# Altium schematic symbol library MaxVit.SchLib: 35 symbols
Pins are listed as number, name and electrical type; pins without a type are passive.

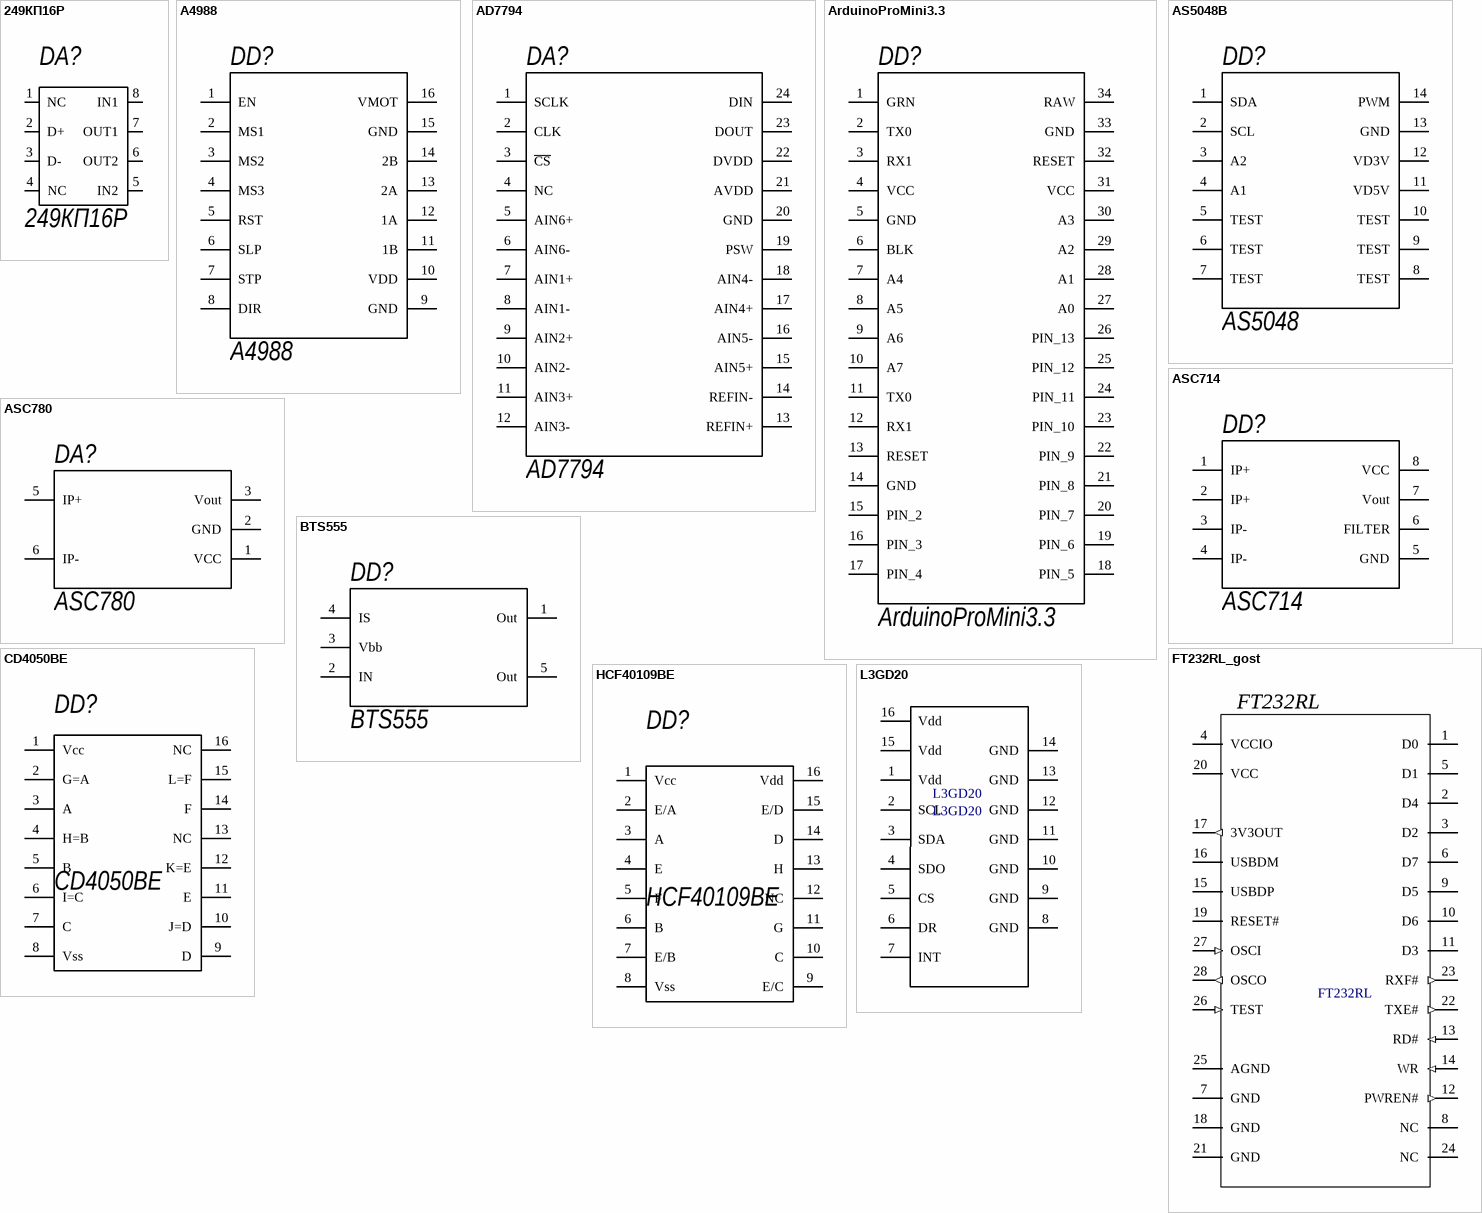
[diagram p0: symbols 249КП16Р to L3GD20]

## 249КП16Р
designator DA?
Power MOSFET Photovoltaic Relay; LastRevisionDate: 06.04.2015; Name: 249КП16Р; OutComment: 249КП16Р; PackageDescription: DIP-8; Publisher: IMTP FEB RAS
footprint DIP-8 (DIP; 8 Leads; Row Spacing 7.62 mm; Pitch 2.54 mm)
pins: 1 NC, 2 D+, 3 D-, 4 NC, 5 IN2, 6 OUT2, 7 OUT1, 8 IN1

## A4988
designator DD?
Drive servo; LastRevisionDate: 02.04.2015; Name: A4988; OutComment: A4988; PackageDescription: a; Publisher: SV
footprint A4988
pins: 1 EN, 2 MS1, 3 MS2, 4 MS3, 5 RST, 6 SLP, 7 STP, 8 DIR, 9 GND, 10 VDD, 11 1B, 12 1A, 13 2A, 14 2B, 15 GND, 16 VMOT

## AD7794
designator DA?
ADC; LastRevisionDate: 06.04.2015; Name: AD7794; OutComment: AD7794; PackageDescription: SOIC; Publisher: IMTP FEB RAS
footprint AD7794
pins: 1 SCLK, 2 CLK, 3 ~{CS}, 4 NC, 5 AIN6+, 6 AIN6-, 7 AIN1+, 8 AIN1-, 9 AIN2+, 10 AIN2-, 11 AIN3+, 12 AIN3-, 13 REFIN+, 14 REFIN-, 15 AIN5+, 16 AIN5-, 17 AIN4+, 18 AIN4-, 19 PSW, 20 GND, 21 AVDD, 22 DVDD, 23 DOUT, 24 DIN

## ArduinoProMini3.3
designator DD?
ArduinoProMini; LastRevisionDate: 02.04.2015; Name: ArduinoProMini3.3; OutComment: ArduinoProMini3.3; PackageDescription: ard; Publisher: SV
footprint ARDUINOpromini3.3
pins: 1 GRN (power), 2 TX0 (power), 3 RX1 (power), 4 VCC, 5 GND (power), 6 BLK (power), 7 A4 (power), 8 A5 (power), 9 A6 (power), 10 A7 (power), 11 TX0 (power), 12 RX1 (power), 13 RESET (power), 14 GND (power), 15 PIN_2 (power), 16 PIN_3 (power), 17 PIN_4 (power), 18 PIN_5 (power), 19 PIN_6 (power), 20 PIN_7 (power), 21 PIN_8 (power), 22 PIN_9 (power), 23 PIN_10 (power), 24 PIN_11 (power), 25 PIN_12 (power), 26 PIN_13 (power), 27 A0 (power), 28 A1 (power), 29 A2 (power), 30 A3 (power), 31 VCC (power), 32 RESET (power), 33 GND (power), 34 RAW (power)

## AS5048B
designator DD?, comment AS5048
Hall Effect-Based Linear Current Sensor; OutComment: AS5048B; LastRevisionDate: 02.04.2015; Name: AS5048; PackageDescription: TSOP_14; Publisher: SV
footprint AS5048_TSOP65P640X120-14N (TSOP, 14-Leads, Body 5.00x4.40mm, Pitch 0.65mm, IPC Medium Density)
pins: 1 SDA, 2 SCL, 3 A2, 4 A1, 5 TEST, 6 TEST, 7 TEST, 8 TEST, 9 TEST, 10 TEST, 11 VD5V, 12 VD3V, 13 GND, 14 PWM

## ASC714
designator DD?
Hall Effect-Based Linear Current Sensor; LastRevisionDate: 02.04.2015; Name: ASC714; OutComment: ASC714; PackageDescription: SOIC-8; Publisher: SV
footprint asc714
pins: 1 IP+ (power), 2 IP+ (power), 3 IP- (power), 4 IP-, 5 GND (power), 6 FILTER (power), 7 Vout (power), 8 VCC (power)

## ASC780
designator DA?
Hall Effect-Based Linear Current Sensor; LastRevisionDate: 02.04.2015; Name: ASC780; OutComment: ASC780; PackageDescription: -; Publisher: SV
footprint ACS780xLR
pins: 1 VCC (power), 2 GND (power), 3 Vout (power), 5 IP+ (power), 6 IP-

## BTS555
designator DD?
Electronics key; LastRevisionDate: 02.04.2015; Name: BTS555; OutComment: BTS555; PackageDescription: -; Publisher: SV
footprint bts555-P-TO218-5-146 (FM, 5-Leads, Body 15x12.5mm, Pitch 2.54mm)
pins: 1 Out (power), 2 IN (power), 3 Vbb (power), 4 IS, 5 Out (power)

## CD4050BE
designator DD?
Non-inverting hex buffers; LastRevisionDate: 15.04.2015; Name: CD4050BE; OutComment: CD4050BE; PackageDescription: DIP-16
footprint DIP16
pins: 1 Vcc (power), 2 G=A (power), 3 A (power), 4 H=B, 5 B (power), 6 I=C (power), 7 C (power), 8 Vss (power), 9 D (power), 10 J=D (power), 11 E (power), 12 K=E (power), 13 NC (power), 14 F (power), 15 L=F (power), 16 NC (power)

## FT232RL_gost
designator FT232RL  (value not drawn)
footprint FT232RL
pins: 1 D0, 2 D4, 3 D2, 4 VCCIO (power), 5 D1, 6 D7, 7 GND (power), 8 NC, 9 D5, 10 D6, 11 D3, 12 PWREN# (out), 13 RD# (in), 14 WR (in), 15 USBDP, 16 USBDM, 17 3V3OUT (out), 18 GND (power), 19 RESET# (hiz), 20 VCC (power), 21 GND (power), 22 TXE# (out), 23 RXF# (out), 24 NC, 25 AGND (power), 26 TEST (in), 27 OSCI (in), 28 OSCO (out)

## HCF40109BE
designator DD?
LOW-TO-HIGH VOLTAGE; LastRevisionDate: 02.04.2015; Name: HCF40109BE; OutComment: HCF40109BE; PackageDescription: DIP16
footprint DIP16
pins: 1 Vcc (power), 2 E/A (power), 3 A (power), 4 E, 5 F (power), 6 B (power), 7 E/B (power), 8 Vss (power), 9 E/C (power), 10 C (power), 11 G (power), 12 NC (power), 13 H (power), 14 D (power), 15 E/D (power), 16 Vdd (power)

## L3GD20
designator L3GD20
Гироскоп 3х осевой
footprint QFN65P399X399X100-16N (QFN, 16-Leads, Body 4,2x4,2mm (max), Pitch 0,65mm, IPC Medium Density)
pins: 1 Vdd, 2 SCL, 3 SDA, 4 SDO, 5 CS, 6 DR , 7 INT, 8 GND, 9 GND, 10 GND, 11 GND, 12 GND, 13 GND, 14 GND, 15 Vdd, 16 Vdd

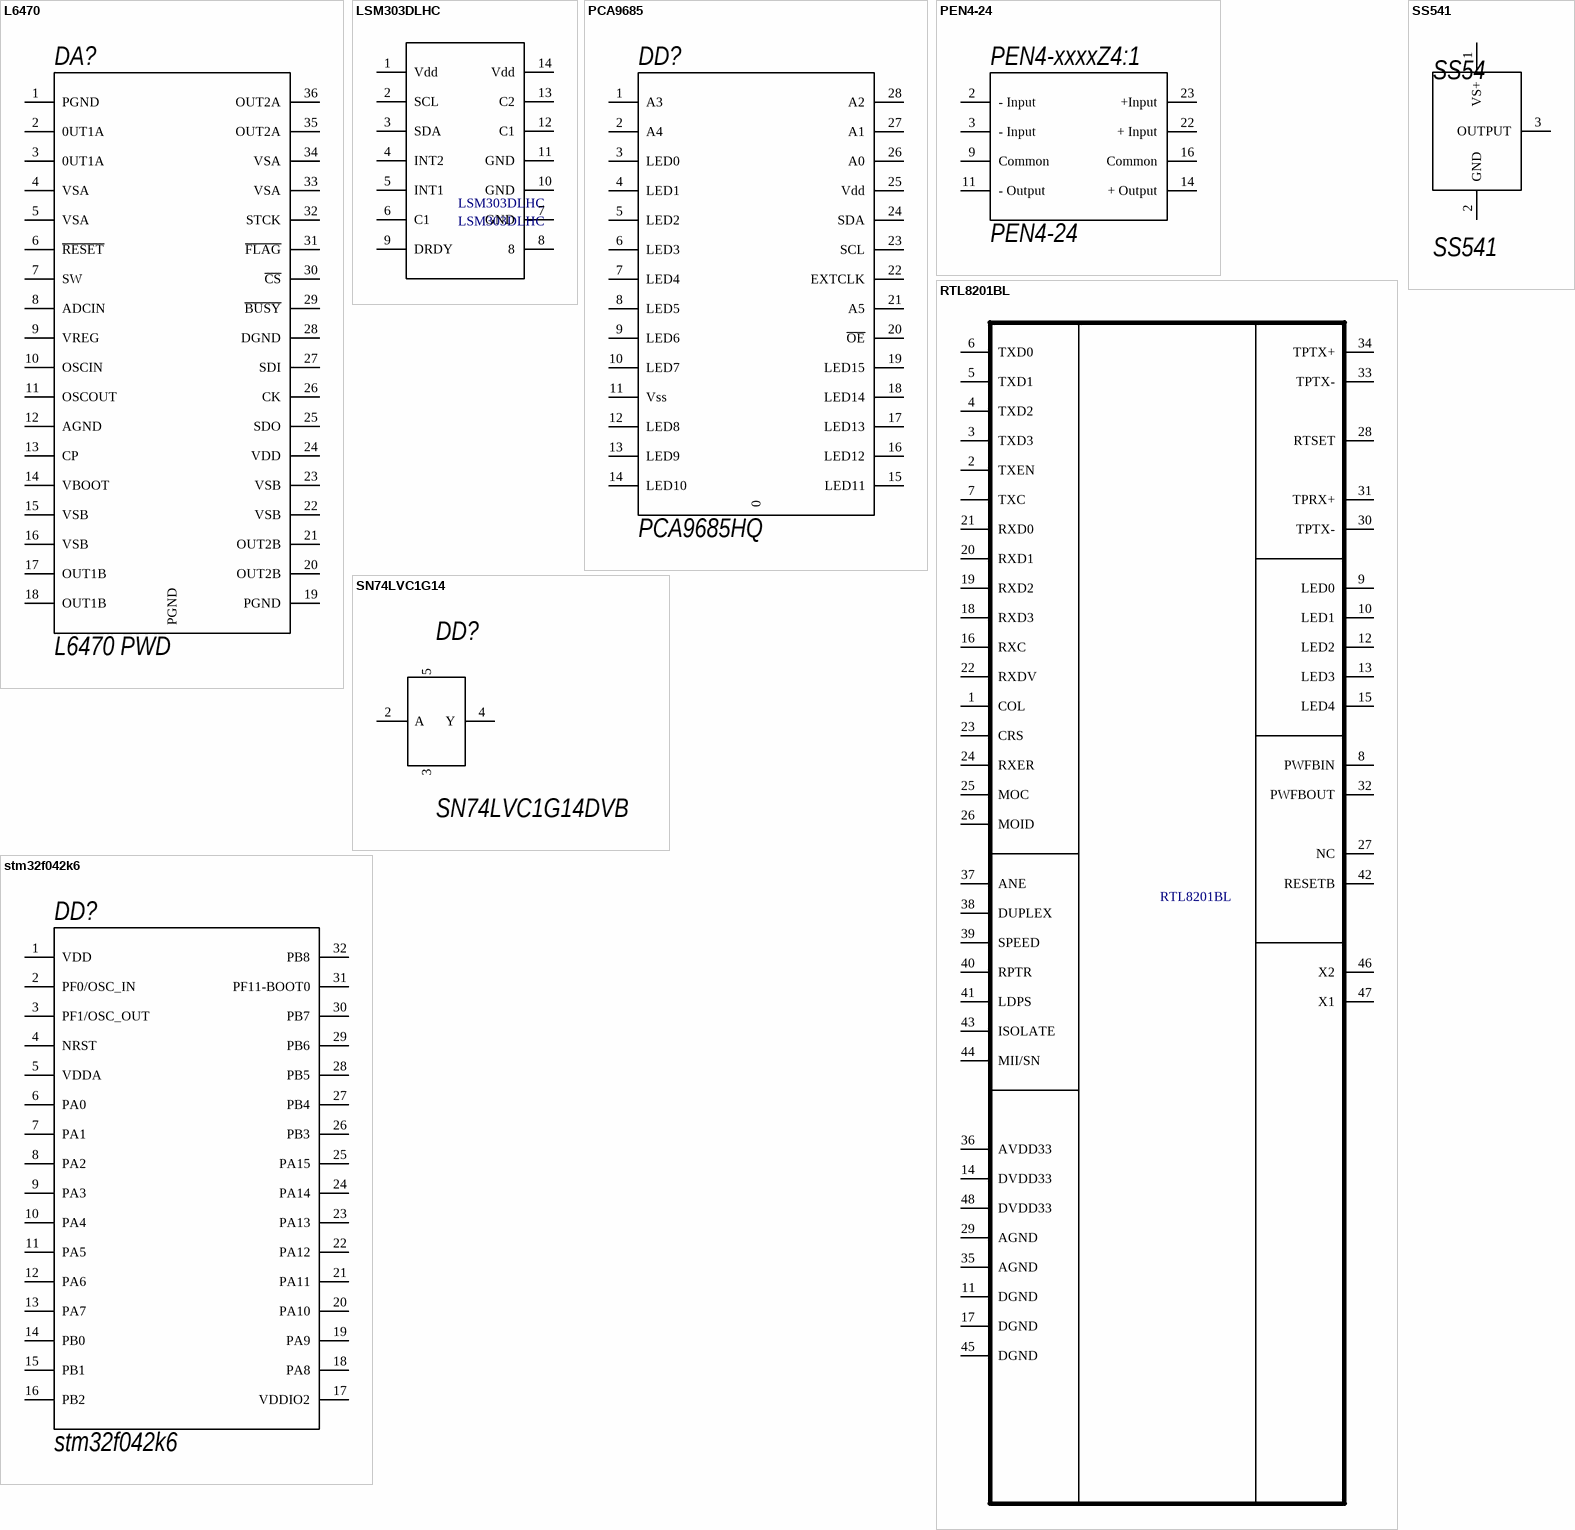
[diagram p1: symbols L6470 to stm32f042k6]

## L6470
designator DA?, comment L6470 PWD
Driver servo; LastRevisionDate: 06.04.2015; Name: L6470 PWD; OutComment: L6470; PackageDescription: POWERSO36; Publisher: IMTP FEB RAS
footprint L6470 PWD
pins: 0 PGND, 1 PGND, 2 0UT1A, 3 0UT1A, 4 VSA, 5 VSA, 6 ~{RESET}, 7 SW, 8 ADCIN, 9 VREG, 10 OSCIN, 11 OSCOUT, 12 AGND, 13 CP, 14 VBOOT, 15 VSB, 16 VSB, 17 OUT1B, 18 OUT1B, 19 PGND, 20 OUT2B, 21 OUT2B, 22 VSB, 23 VSB, 24 VDD, 25 SDO, 26 CK, 27 SDI, 28 DGND, 29 ~{BUSY}, 30 ~{CS}, 31 ~{FLAG}, 32 STCK, 33 VSA, 34 VSA, 35 OUT2A, 36 OUT2A

## LSM303DLHC
designator LSM303DLHC
Акселерометр и компас
footprint QFN80P392X192X100-14N (QFN, 14-Leads, Body 1,0x3,0mm (max), Pitch 0,80mm, IPC Medium Density)
pins: 1 Vdd, 2 SCL, 3 SDA, 4 INT2, 5 INT1, 6 C1, 7 GND, 8, 9 DRDY, 10 GND, 11 GND, 12 C1, 13 C2, 14 Vdd

## PCA9685
designator DD?, comment PCA9685HQ
ADC; LastRevisionDate: 06.04.2015; Name: PCA9685HQ; OutComment: PCA9685; PackageDescription: HVQFN28; Publisher: IMTP FEB RAS
footprint pca9685 HVQFN28 (QFN, 28-Leads, Body 6.00x6.00mm, Pitch 0.65mm, Thermal Pad 4.10x4.10mm, IPC Medium Density)
pins: 0, 1 A3, 2 A4, 3 LED0, 4 LED1, 5 LED2, 6 LED3, 7 LED4, 8 LED5, 9 LED6, 10 LED7, 11 Vss, 12 LED8, 13 LED9, 14 LED10, 15 LED11, 16 LED12, 17 LED13, 18 LED14, 19 LED15, 20 ~{OE}, 21 A5, 22 EXTCLK, 23 SCL, 24 SDA, 25 Vdd, 26 A0, 27 A1, 28 A2

## PEN4-24
designator PEN4-xxxxZ4:1
DC/DC; LastRevisionDate: 02.04.2015; Name: PEN4-24; OutComment: PEN4-24; PackageDescription: DIP; Publisher: SV
footprint DIP24
pins: 2 - Input (power), 3 - Input (power), 9 Common (power), 11 - Output, 14 + Output (power), 16 Common (power), 22 + Input (power), 23 +Input (power)

## RTL8201BL
designator RTL8201BL, comment Realteck  (value not drawn)
STM->Ethernet
footprint LQFP-48_N (Thin QFP, 48-Leads, Body 7x7mm, Pitch 0.5mm, IPC Medium Density)
pins: 1 COL, 2 TXEN, 3 TXD3, 4 TXD2, 5 TXD1, 6 TXD0, 7 TXC, 8 PWFBIN, 9 LED0, 10 LED1, 11 DGND, 12 LED2, 13 LED3, 14 DVDD33, 15 LED4, 16 RXC, 17 DGND, 18 RXD3, 19 RXD2, 20 RXD1, 21 RXD0, 22 RXDV, 23 CRS, 24 RXER, 25 MOC, 26 MOID, 27 NC, 28 RTSET, 29 AGND, 30 TPTX-, 31 TPRX+, 32 PWFBOUT, 33 TPTX-, 34 TPTX+, 35 AGND, 36 AVDD33, 37 ANE, 38 DUPLEX, 39 SPEED, 40 RPTR, 41 LDPS, 42 RESETB, 43 ISOLATE, 44 MII/SN, 45 DGND, 46 X2, 47 X1, 48 DVDD33

## SN74LVC1G14
designator DD?, comment SN74LVC1G14DVB
Schmitt-trigger; LastRevisionDate: 02.04.2015; Name: SN74LVC1G14DVB; OutComment: SN74LVC1G14DVB; PackageDescription: so-g
footprint SO - 5 (DIP; 8 Leads; Row Spacing 7.62 mm; Pitch 2.54 mm)
pins: 2 A (power), 3 GND (power), 4 Y (power), 5 Vcc (power)

## SS541
designator SS54
Hall Effect-Based Linear Current Sensor; OutComment: SS541AT; LastRevisionDate: 02.04.2015; Name: SS541; PackageDescription: SOT-89; Publisher: SV
footprint SOT89-150P409X200-3N (SOT89, 3-Leads, Body 4.96x2.38mm, Pitch 1.50mm, Lead Span 4.1mm, IPC Medium Density)
pins: 1 VS+ (power), 2 GND (power), 3 OUTPUT (power)

## stm32f042k6
designator DD?
LastRevisionDate: 15.02.2018; Name: stm32f042k6; OutComment: stm32f042k6; PackageDescription: UQFN48; Publisher: ViT
footprint UQFN32P500X500X50_HS-32N (QFN, 32-Leads, Body 5.00x5.00mm, Pitch 0.50mm, Thermal Pad 3.50x3.50mm, IPC Medium Density)
pins: 1 VDD, 2 PF0/OSC_IN, 3 PF1/OSC_OUT, 4 NRST, 5 VDDA, 6 PA0, 7 PA1, 8 PA2, 9 PA3, 10 PA4, 11 PA5, 12 PA6, 13 PA7, 14 PB0, 15 PB1, 16 PB2, 17 VDDIO2, 18 PA8, 19 PA9, 20 PA10, 21 PA11, 22 PA12, 23 PA13, 24 PA14, 25 PA15, 26 PB3, 27 PB4, 28 PB5, 29 PB6, 30 PB7, 31 PF11-BOOT0, 32 PB8

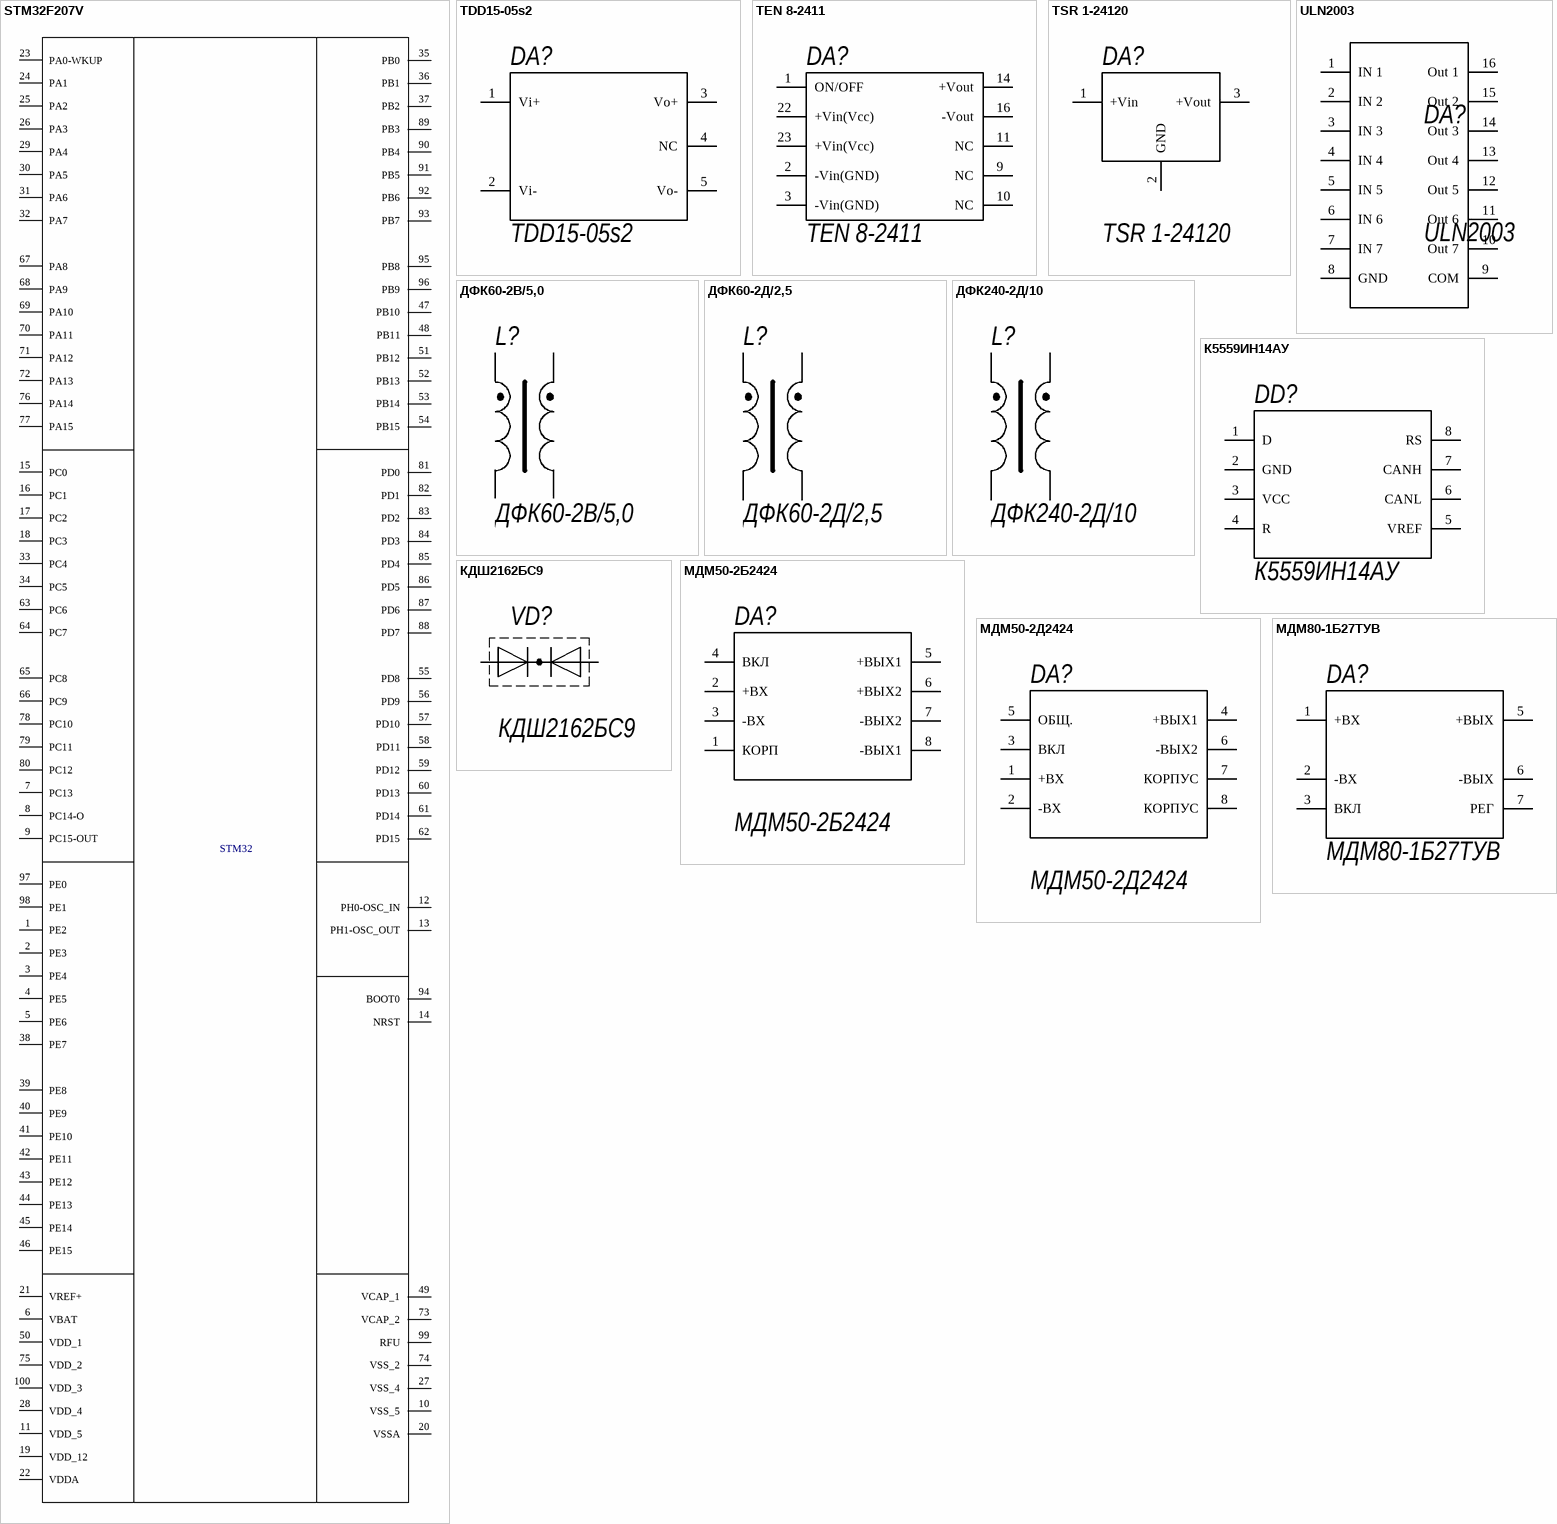
[diagram p2: symbols STM32F207V to МДМ80-1Б27ТУВ]

## STM32F207V
designator STM32  (value not drawn)
PackedDescription: QFN100; Name: STM32F207; OutComment: STM32F207
footprint STM32_F207 (Корпус стмКи)
pins: 1 PE2, 2 PE3, 3 PE4, 4 PE5, 5 PE6, 6 VBAT (power), 7 PC13, 8 PC14-O, 9 PC15-OUT, 10 VSS_5 (power), 11 VDD_5 (power), 12 PH0-OSC_IN, 13 PH1-OSC_OUT, 14 NRST, 15 PC0, 16 PC1, 17 PC2, 18 PC3, 19 VDD_12 (power), 20 VSSA (power), 21 VREF+ (power), 22 VDDA (power), 23 PA0-WKUP, 24 PA1, 25 PA2, 26 PA3, 27 VSS_4 (power), 28 VDD_4 (power), 29 PA4, 30 PA5, 31 PA6, 32 PA7, 33 PC4, 34 PC5, 35 PB0, 36 PB1, 37 PB2, 38 PE7, 39 PE8, 40 PE9, 41 PE10, 42 PE11, 43 PE12, 44 PE13, 45 PE14, 46 PE15, 47 PB10, 48 PB11, 49 VCAP_1 (power), 50 VDD_1 (power), 51 PB12, 52 PB13, 53 PB14, 54 PB15, 55 PD8, 56 PD9, 57 PD10, 58 PD11, 59 PD12, 60 PD13, 61 PD14, 62 PD15, 63 PC6, 64 PC7, 65 PC8, 66 PC9, 67 PA8, 68 PA9, 69 PA10, 70 PA11, 71 PA12, 72 PA13, 73 VCAP_2 (power), 74 VSS_2 (power), 75 VDD_2 (power), 76 PA14, 77 PA15, 78 PC10, 79 PC11, 80 PC12, 81 PD0, 82 PD1, 83 PD2, 84 PD3, 85 PD4, 86 PD5, 87 PD6, 88 PD7, 89 PB3, 90 PB4, 91 PB5, 92 PB6, 93 PB7, 94 BOOT0, 95 PB8, 96 PB9, 97 PE0, 98 PE1, 99 RFU, 100 VDD_3 (power)

## TDD15-05s2
designator DA?
DC/DC in 18-36 out 5 V 3 A; LastRevisionDate: 01.07.2015; Name: TDD15-05s2; OutComment: TDD15-05s2; PackageDescription: DP; Publisher: ViT
footprint TDD15-05s2 (DC/DC)
pins: 1 Vi+ (power), 2 Vi- (power), 3 Vo+ (power), 4 NC, 5 Vo-

## TEN 8-2411
designator DA?
DC/DC in 18-36 out 5; LastRevisionDate: 22.10.2015; Name: TEN 8-2411; OutComment: TEN 8-2411; PackageDescription: DP; Publisher: ViT
footprint TEN 8 2411
pins: 1 ON/OFF (power), 2 -Vin(GND) (power), 3 -Vin(GND) (power), 9 NC, 10 NC, 11 NC, 14 +Vout, 16 -Vout, 22 +Vin(Vcc), 23 +Vin(Vcc)

## TSR 1-24120
designator DA?
DC/DC In 18-36, out 12 V 1 A; LastRevisionDate: 22.10.2015; Name: TSR 1-24120; OutComment: TSR 1-24120; PackageDescription: Кубик; Publisher: MaxVit
footprint Кубик
pins: 1 +Vin, 2 GND, 3 +Vout

## ULN2003
designator DA?
high?current  darlington drivers comprised of seven NPN darlington pairs.; OutComment: ULN2003AFWG; LastRevisionDate: 01.07.2015; Name: ULN2003; PackageDescription: SOL16; Publisher: ViT
footprint ULN2003AFWG-SOL16
pins: 1 IN 1, 2 IN 2, 3 IN 3, 4 IN 4, 5 IN 5, 6 IN 6, 7 IN 7, 8 GND, 9 COM, 10 Out 7, 11 Out 6, 12 Out 5, 13 Out 4, 14 Out 3, 15 Out 2, 16 Out 1

## ДФК60-2В/5,0
designator L?
Дросель; LatestRevisionDate: 14.04.2015; Name: ДФК60-2В/5,0; OutComment: ДФК60-2В/5,0; Publisher: IMTP FEB RAS
footprint ДФК60-2В/5.0
pins: 1, 2, 3, 4

## ДФК60-2Д/2,5
designator L?
Дросель; LatestRevisionDate: 14.04.2015; Name: ДФК60-2Д/2,5; OutComment: ДФК60-2Д/2,5; Publisher: IMTP FEB RAS
footprint ДФК60-2Д/2.5
pins: 1, 2, 3, 4

## ДФК240-2Д/10
designator L?
Дросель; LatestRevisionDate: 12.11.2015; Name: ДФК240-2Д/10; OutComment: ДФК240-2Д/10; Publisher: MaxVit
footprint ДФК240-2Д/10,0
pins: 1, 2, 3, 4

## К5559ИН14АУ
designator DD?
LastRevisionDate: 25.03.2010; Name: К5559ИН14АУ; OutComment: К5559ИН14АУ; PackageDescription: SOIC 8; Publisher: IMTP FEB RAS
footprint SOJ-8
pins: 1 D, 2 GND, 3 VCC, 4 R, 5 VREF, 6 CANL, 7 CANH, 8 RS

## КДШ2162БС9
designator VD?
DIODE; LastRevisionDate: 10.04.2015; Name: КДШ2162БС9; OutComment: КДШ2162БС9; PackageDescription: D2-PAK; Publisher: IMTP FEB RAS
footprint корпус КТ-90 (D2PAK) (D2-PAK, 3-Pads, Body 8,7x10,2mm (max), IPC Medium Density)
pins: 1, 2, 3

## МДМ50-2Б2424
designator DA?
DC-DC; LastRevisionDate: 13.04.2015; Name: МДМ50-2Б2424; OutComment: МДМ50-2Б2424; PackageDescription: МДМ50-2Б2424; Publisher: IMTP FEB RAS
footprint МДМ50Б_F
pins: 1 КОРП, 2 +ВХ, 3 -ВХ, 4 ВКЛ, 5 +ВЫХ1, 6 +ВЫХ2, 7 -ВЫХ2, 8 -ВЫХ1

## МДМ50-2Д2424
designator DA?
DC-DC; LastRevisionDate: 09.04.2015; Name: МДМ50-2Д2424; OutComment: МДМ50-2Д2424; PackageDescription: МДМ50-2Д2424; Publisher: IMTP FEB RAS
footprint МДМ50_NF
footprint МДМ50_F
pins: 1 +ВХ, 2 -ВХ, 3 ВКЛ, 4 +ВЫХ1, 5 ОБЩ., 6 -ВЫХ2, 7 КОРПУС, 8 КОРПУС

## МДМ80-1Б27ТУВ
designator DA?
DC-DC; LastRevisionDate: 11.11.2015; Name: МДМ80-1Б27ТУВ; OutComment: МДМ80-1Б27ТУВ; PackageDescription: Кубик; Publisher: MaxVit
footprint МДМ80-1 (DC/DC кокпус с фланцем)
pins: 1 +ВХ, 2 -ВХ, 3 ВКЛ, 5 +ВЫХ, 6 -ВЫХ, 7 РЕГ

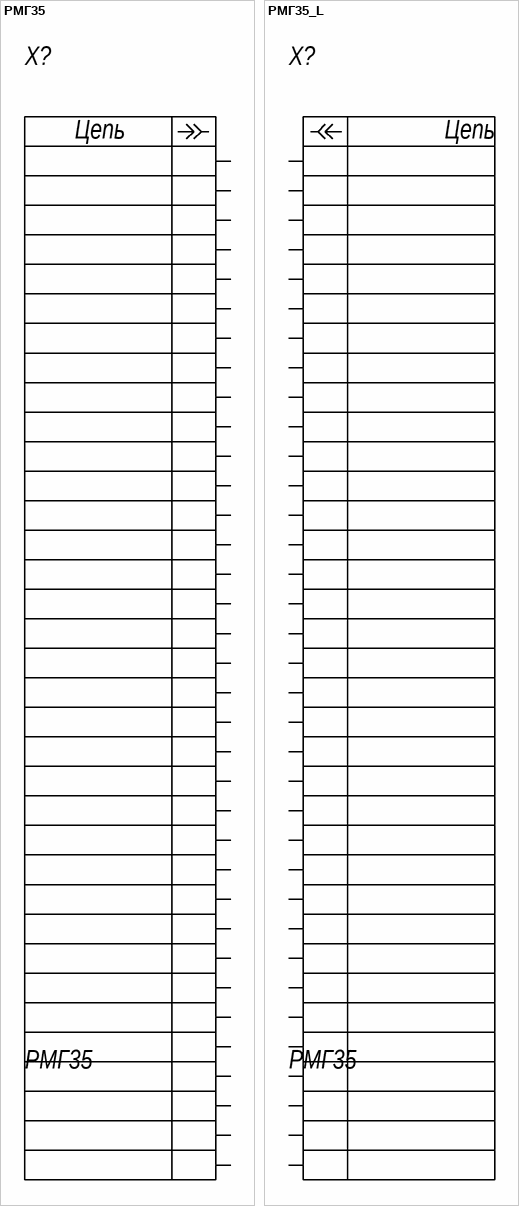
[diagram p3: symbols РМГ35 to РМГ35_L]

## РМГ35
designator X?
OutComment: 2РМТ24КПН19Г1А1В; Name: РМГ35; LatestRevisionDate: 08.04.2015; PackageDescription: *; Publisher: IMTP FEB RAS
footprint РГ35-3
pins: 1, 2, 3, 4, 5, 6, 7, 8, 9, 10, 11, 12, 13, 14, 15, 16, 17, 18, 19, 20, 21, 22, 23, 24, 25, 26, 27, 28, 29, 30, 31, 32, 33, 34, 35
text: Цепь

## РМГ35_L
designator X?, comment РМГ35
OutComment: 2РМТ24КПН19Г1А1В; Name: РМГ35; LatestRevisionDate: 08.04.2015; PackageDescription: *; Publisher: IMTP FEB RAS
footprint РГ35-3
pins: 1, 2, 3, 4, 5, 6, 7, 8, 9, 10, 11, 12, 13, 14, 15, 16, 17, 18, 19, 20, 21, 22, 23, 24, 25, 26, 27, 28, 29, 30, 31, 32, 33, 34, 35
text: Цепь